# Altium schematic symbol library B340A-13-F.SchLib: 1 symbol
Pins are listed as number, name and electrical type; pins without a type are passive.

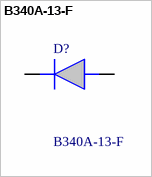
[diagram p0: symbol B340A-13-F]

## B340A-13-F
designator D?
Schottky Diode 3A 40V 0.5Vf SMA Diodes Inc B340A-13-F, SMT Schottky Diode, 40V 3A, 2-Pin DO-214AC; Manufacturer_Name: Diodes Incorporated; Geometry.Height: 2.4mm; Mouser Part Number: 621-B340A-F; Mouser Price/Stock: https://www.mouser.co.uk/ProductDetail/Diodes-Incorporated/B340A-13-F?qs=aLaTXeBcTP9fj%2FYKVo6Q1A%3D%3D; Manufacturer_Part_Number: B340A-13-F; Datasheet Link: https://datasheet.datasheetarchive.com/originals/distributors/Datasheets-305/73551.pdf
footprint DIOM5226X240N
pins: 1 K, 2 A